# Altium footprint library ESP32.PcbLib: 3 footprints
Each footprint in its own frame and in the unit in brackets; x right, y up, seen from the top. Pads: shape width x height; smd on the part's side, far side on the other; paste and mask are expansions set on the pad; w line width, h text height; cw(c..) or ccw(c..) is an arc to the next point about the centre after c.
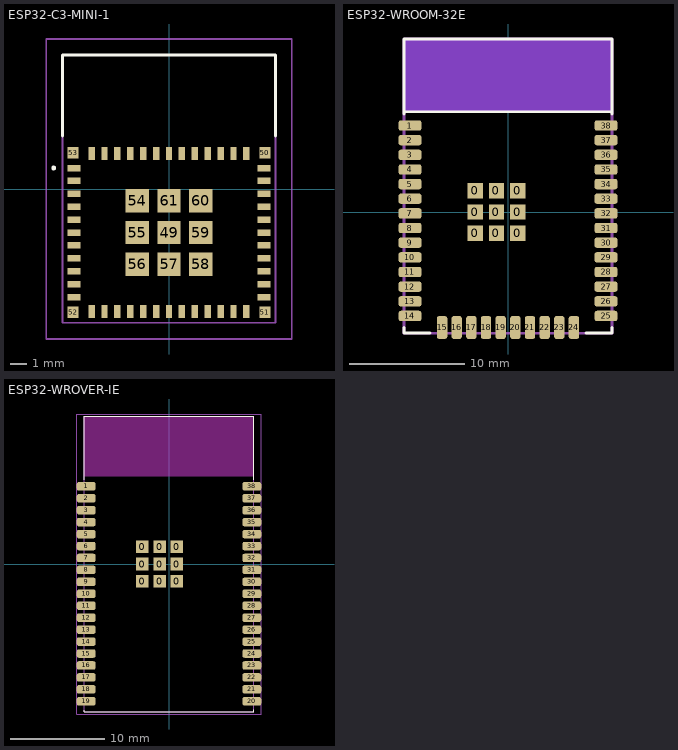
[diagram p0: the footprints below, top view; thin cyan lines are the x and y axes]

## ESP32-C3-MINI-1 [mm]
pads (61):
  rect 0.8x0.4 smd: 1(-5.9,1.3) 2(-5.9,0.5) 3(-5.9,-0.3) 4(-5.9,-1.1) 5(-5.9,-1.9) 6(-5.9,-2.7) 7(-5.9,-3.5) 8(-5.9,-4.3) 9(-5.9,-5.1) 10(-5.9,-5.9) 11(-5.9,-6.7) 25(5.9,-6.7) 26(5.9,-5.9) 27(5.9,-5.1) 28(5.9,-4.3) 29(5.9,-3.5) 30(5.9,-2.7) 31(5.9,-1.9) 32(5.9,-1.1) 33(5.9,-0.3) 34(5.9,0.5) 35(5.9,1.3)
  rect 0.4x0.8 smd: 12(-4.8,-7.6) 13(-4,-7.6) 14(-3.2,-7.6) 15(-2.4,-7.6) 16(-1.6,-7.6) 17(-0.8,-7.6) 18(0,-7.6) 19(0.8,-7.6) 20(1.6,-7.6) 21(2.4,-7.6) 22(3.2,-7.6) 23(4,-7.6) 24(4.8,-7.6) 36(4.8,2.2) 37(4,2.2) 38(3.2,2.2) 39(2.4,2.2) 40(1.6,2.2) 41(0.8,2.2) 42(0,2.2) 43(-0.8,2.2) 44(-1.6,2.2) 45(-2.4,2.2) 46(-3.2,2.2) 47(-4,2.2) 48(-4.8,2.2)
  rect 1.45x1.45 smd: 49(0,-2.7) 54(-1.975,-0.725) 55(-1.975,-2.7) 56(-1.975,-4.675) 57(0,-4.675) 58(1.975,-4.675) 59(1.975,-2.7) 60(1.975,-0.725) 61(0,-0.725)
  rect 0.7x0.7 smd: 50(5.95,2.25) 51(5.95,-7.65) 52(-5.95,-7.65) 53(-5.95,2.25)
Top Overlay:
  lines w0.2: -7.2,1.3 ccw(c-7.15,1.3) -7.1,1.3 ; -7.2,1.3 cw(c-7.15,1.3) -7.1,1.3 ; -7.2,1.3 ccw(c-7.15,1.3) -7.1,1.3 ; -6.6,8.3 6.6,8.3 ; -6.6,8.3 6.6,8.3 ; -6.6,8.3 -6.6,3.3 -6.6,8.3 ; 6.6,8.3 6.6,3.3 6.6,8.3
Mechanical 13:
  lines w0.1: -6.6,-8.3 -6.6,8.3 6.6,8.3 6.6,-8.3 -6.6,-8.3
Mechanical 15:
  lines w0.1: -7.6,-9.3 -7.6,9.3 7.6,9.3 7.6,-9.3 -7.6,-9.3
3D body "ESP32-C3-MINI-1_20210903_0.STEP": height 2.4, standoff 0, extent -6.596,-8.3 6.604,8.3

## ESP32-WROOM-32E [mm]
height 3.2
pads (47):
  rect 1.33x1.33 smd: 0(-2.835,-1.835) 0(-2.835,0) 0(-2.835,1.835) 0(-1,-1.835) 0(-1,0) 0(-1,1.835) 0(0.835,-1.835) 0(0.835,0) 0(0.835,1.835)
  rrect50% 2x0.9 smd: 1(-8.5,7.5) 2(-8.5,6.23) 3(-8.5,4.96) 4(-8.5,3.69) 5(-8.5,2.42) 6(-8.5,1.15) 7(-8.5,-0.12) 8(-8.5,-1.39) 9(-8.5,-2.66) 10(-8.5,-3.93) 11(-8.5,-5.2) 12(-8.5,-6.47) 13(-8.5,-7.74) 14(-8.5,-9.01) 25(8.5,-9.01) 26(8.5,-7.74) 27(8.5,-6.47) 28(8.5,-5.2) 29(8.5,-3.93) 30(8.5,-2.66) 31(8.5,-1.39) 32(8.5,-0.12) 33(8.5,1.15) 34(8.5,2.42) 35(8.5,3.69) 36(8.5,4.96) 37(8.5,6.23) 38(8.5,7.5)
  rrect50% 0.9x2 smd: 15(-5.715,-10.01) 16(-4.445,-10.01) 17(-3.175,-10.01) 18(-1.905,-10.01) 19(-0.635,-10.01) 20(0.635,-10.01) 21(1.905,-10.01) 22(3.175,-10.01) 23(4.445,-10.01) 24(5.715,-10.01)
Top Layer keep-out:
  rectangle: -9,8.69 9,15
Bottom Layer keep-out:
  rectangle: -9,8.69 9,15
Top Overlay:
  lines w0.254: -9,-10 -9,-10.5 -6.75,-10.5 ; -9,8.5 -9,15 9,15 9,8.5 ; -9,8.69 9,8.69 ; 6.75,-10.5 9,-10.5 9,-10
Mechanical 11:
  lines w0.254: -9,8.69 9,8.69 ; -9,-10.51 -9,14.99 9,14.99 9,-10.51 -9,-10.51
3D body "ESP32-WROOM-32D.step": height 3.04, standoff 0, extent -9.035,-10.59 9.035,14.95

## ESP32-WROVER-IE [mm]
pads (47):
  rect 1.33x1.33 smd: 0(-2.835,-1.835) 0(-2.835,0) 0(-2.835,1.835) 0(-1,-1.835) 0(-1,0) 0(-1,1.835) 0(0.835,-1.835) 0(0.835,0) 0(0.835,1.835)
  rrect50% 2x0.9 smd: 1(-8.81,8.26) 2(-8.81,6.99) 3(-8.81,5.72) 4(-8.81,4.45) 5(-8.81,3.18) 6(-8.81,1.91) 7(-8.81,0.64) 8(-8.81,-0.63) 9(-8.81,-1.9) 10(-8.81,-3.17) 11(-8.81,-4.44) 12(-8.81,-5.71) 13(-8.81,-6.98) 14(-8.81,-8.25) 15(-8.81,-9.52) 16(-8.81,-10.79) 17(-8.81,-12.06) 18(-8.81,-13.33) 19(-8.81,-14.6) 20(8.81,-14.6) 21(8.81,-13.33) 22(8.81,-12.06) 23(8.81,-10.79) 24(8.81,-9.52) 25(8.81,-8.25) 26(8.81,-6.98) 27(8.81,-5.71) 28(8.81,-4.44) 29(8.81,-3.17) 30(8.81,-1.9) 31(8.81,-0.63) 32(8.81,0.64) 33(8.81,1.91) 34(8.81,3.18) 35(8.81,4.45) 36(8.81,5.72) 37(8.81,6.99) 38(8.81,8.26)
Top Overlay:
  lines w0.127: -9,-15.55 -9,-15.7 9,-15.7 9,-15.5 ; -9,8.95 -9,15.7 9,15.7 9,8.95
Keep-Out Layer:
  region: 9,9.324 -9.023,9.324 -9.023,15.7 9,15.7
  region: 9,9.331 -9.03,9.331 -9.03,15.7 9,15.7
  region: 9,9.33 -9.029,9.33 -9.029,15.7 9,15.7
Mechanical 13:
  lines w0.127: -9,-15.7 9,-15.7 9,15.7 -9,15.7 -9,-15.7
Mechanical 15:
  lines w0.05: -9.8,-15.95 9.8,-15.95 9.8,15.95 -9.8,15.95 -9.8,-15.95
3D body "ESP32-WROVER-I.step": height 3.65, standoff 0, extent -9,-15.7 9,15.7